# Altium integrated library NUP4302MR6T1G.IntLib: 1 symbol
Pins are listed as number, name and electrical type; pins without a type are passive.

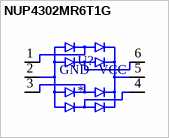
[diagram p0: symbol NUP4302MR6T1G]

## NUP4302MR6T1G
designator U?
IC,Diode;TVS,Array;16KV;TSOP-6;Cut Tape | ON Semiconductor NUP4302MR6T1G; SnapEDA_Link: https://www.snapeda.com/parts/NUP4302MR6T1G/Onsemi/view-part/?ref=snap; Package: TSOP-6 ON Semiconductor; Value: *; MF: ON Semiconductor; MP: NUP4302MR6T1G; Check_prices: https://www.snapeda.com/parts/NUP4302MR6T1G/Onsemi/view-part/?ref=eda
footprint SOP95P275X110-6N
pins: 1 I/O_1, 2 GND, 3 I/O_3, 4 I/O_4, 5 VCC, 6 I/O_6